# Altium footprint library QFN.PcbLib: 24 footprints (part 1 of 2)
Each footprint in its own frame and in the unit in brackets; x right, y up, seen from the top. Pads: shape width x height; smd on the part's side, far side on the other; paste and mask are expansions set on the pad; w line width, h text height; cw(c..) or ccw(c..) is an arc to the next point about the centre after c.
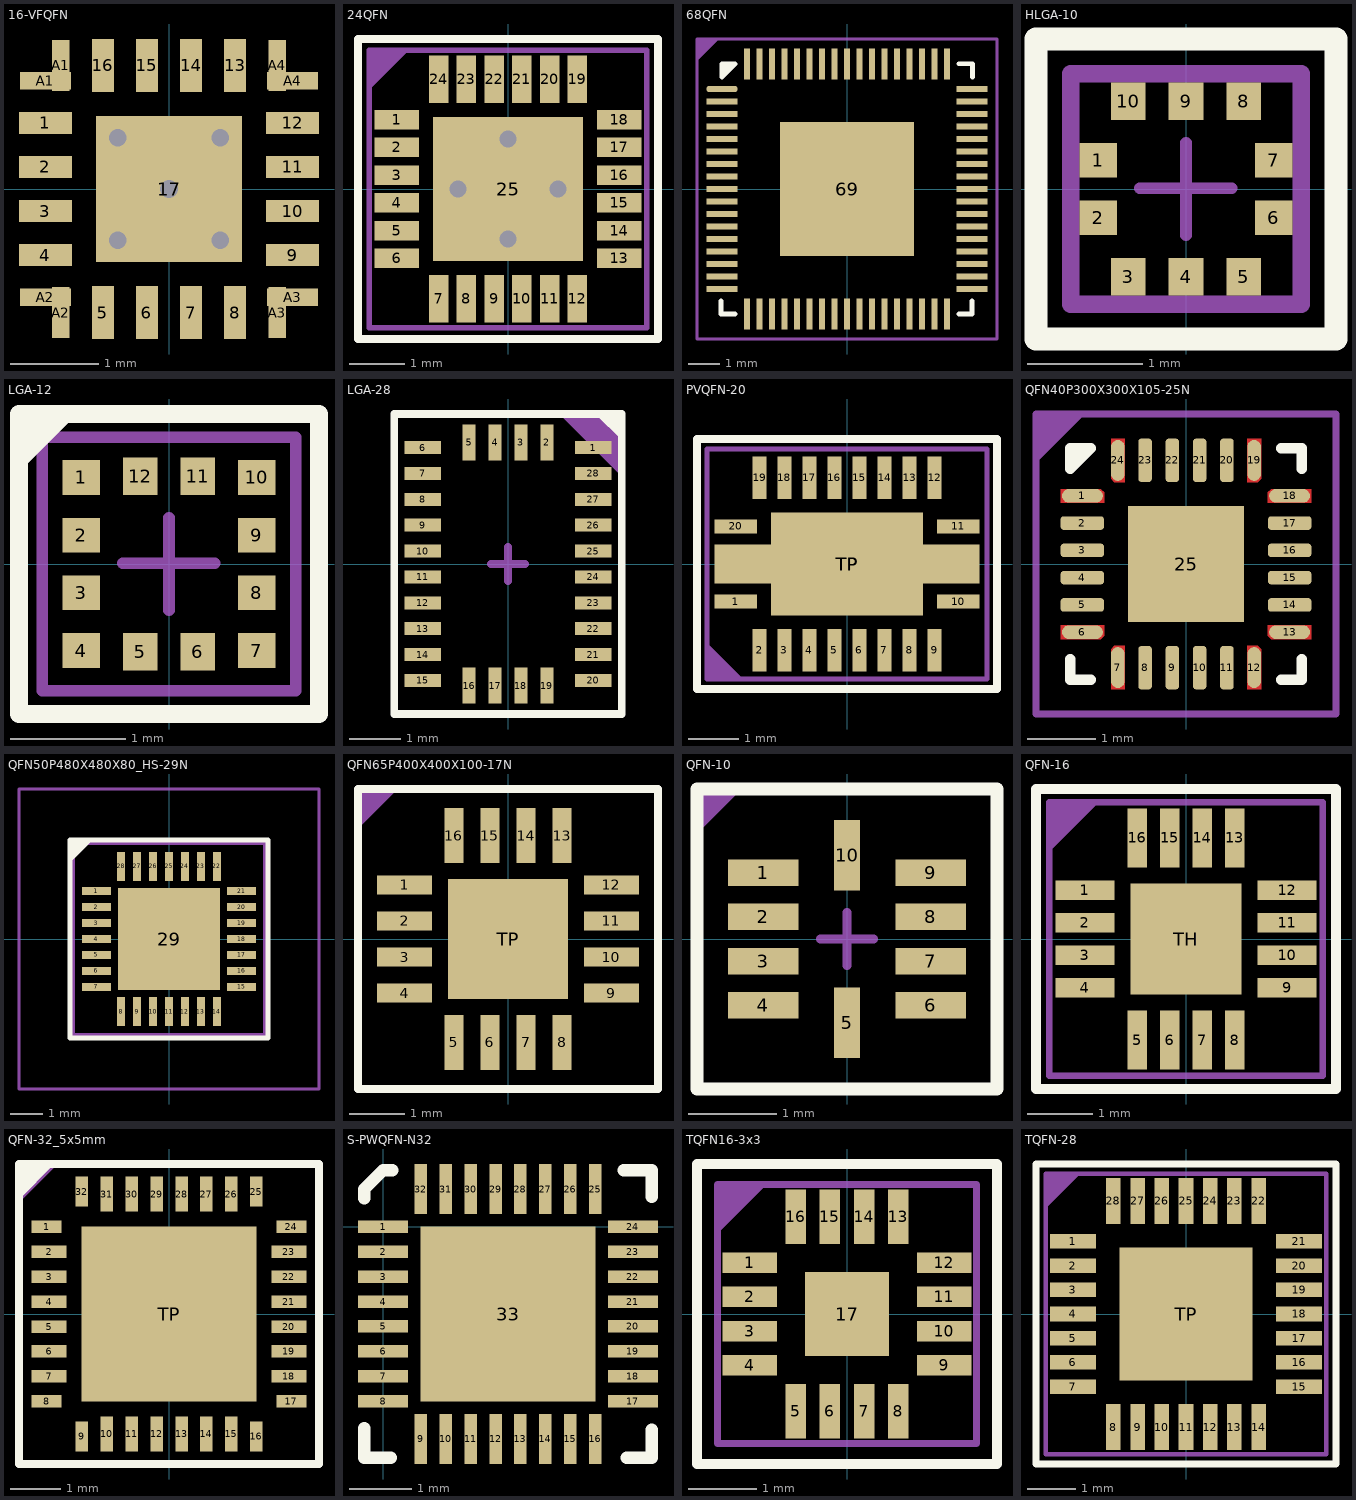
[diagram p0: the footprints below, top view; thin cyan lines are the x and y axes]

## 16-VFQFN [mm]
pads (25):
  rect 0.6x0.25 smd: 1(-1.4,0.75) 2(-1.4,0.25) 3(-1.4,-0.25) 4(-1.4,-0.75) 9(1.4,-0.75) 10(1.4,-0.25) 11(1.4,0.25) 12(1.4,0.75)
  rect 0.25x0.6 smd: 5(-0.75,-1.4) 6(-0.25,-1.4) 7(0.25,-1.4) 8(0.75,-1.4) 13(0.75,1.4) 14(0.25,1.4) 15(-0.25,1.4) 16(-0.75,1.4)
  rect 1.66x1.66 smd: 17(0,0)
  rect 0.575x0.2 smd: A1(-1.4,1.225) A2(-1.4,-1.225) A3(1.4,-1.225) A4(1.4,1.225)
  rect 0.2x0.575 smd: A1(-1.225,1.4) A2(-1.225,-1.4) A3(1.225,-1.4) A4(1.225,1.4)
via 0.58,-0.58 diameter 0.2 hole 0.2
via 0.58,0.58 diameter 0.2 hole 0.2
via -0.58,0.58 diameter 0.2 hole 0.2
via -0.58,-0.58 diameter 0.2 hole 0.2
via 0,0 diameter 0.2 hole 0.2
Top Assembly:
  text "BAD" at -1.022,2.778 h0.8

## 24QFN [mm]
pads (25):
  rect 0.8x0.35 smd: 1(-2,1.25) 2(-2,0.75) 3(-2,0.25) 4(-2,-0.25) 5(-2,-0.75) 6(-2,-1.25) 13(2,-1.25) 14(2,-0.75) 15(2,-0.25) 16(2,0.25) 17(2,0.75) 18(2,1.25)
  rect 0.35x0.85 smd: 7(-1.25,-1.975) 8(-0.75,-1.975) 9(-0.25,-1.975) 10(0.25,-1.975) 11(0.75,-1.975) 12(1.25,-1.975) 19(1.25,1.975) 20(0.75,1.975) 21(0.25,1.975) 22(-0.25,1.975) 23(-0.75,1.975) 24(-1.25,1.975)
  rect 2.7x2.6 smd: 25(0,0)
via 0,0.9 diameter 0.6 hole 0.3
via -0.9,0 diameter 0.6 hole 0.3
via 0.9,0 diameter 0.6 hole 0.3
via 0,-0.9 diameter 0.6 hole 0.3
Top Overlay:
  lines w0.153: -2.7,-2.7 -2.7,2.7 2.7,2.7 2.7,-2.7 -2.7,-2.7
  text "." at -3.446,1.954 h1.52
Top Assembly:
  region: -2.5,2.5 -1.85,2.5 -2.5,1.85
  lines w0.1: -2.5,1.85 -1.85,2.5 ; -2.5,-2.5 -2.5,2.5 2.5,2.5 2.5,-2.5 -2.5,-2.5
  text "'.Designator'" at -2.621,2.837 h1.52
Top Courtyard:
  lines w0.1: -2.5,1.85 -1.85,2.5 ; -0.4,0 0.4,0 ; 0,-0.4 0,0.4 ; -2.5,-2.5 -2.5,2.5 2.5,2.5 2.5,-2.5 -2.5,-2.5
3D body "User Library-mpu-6050_qfn-24-1.STEP": height 0.88, standoff -0.02, extent -2,-2.02 2.04,2.02

## 68QFN [mm]
pads (69):
  oval 1x0.2 smd: 1(-4,3.2)
  rect 1x0.2 smd: 2(-4,2.8) 3(-4,2.4) 4(-4,2) 5(-4,1.6) 6(-4,1.2) 7(-4,0.8) 8(-4,0.4) 9(-4,0) 10(-4,-0.4) 11(-4,-0.8) 12(-4,-1.2) 13(-4,-1.6) 14(-4,-2) 15(-4,-2.4) 16(-4,-2.8) 17(-4,-3.2) 35(4,-3.2) 36(4,-2.8) 37(4,-2.4) 38(4,-2) 39(4,-1.6) 40(4,-1.2) 41(4,-0.8) 42(4,-0.4) 43(4,0) 44(4,0.4) 45(4,0.8) 46(4,1.2) 47(4,1.6) 48(4,2) 49(4,2.4) 50(4,2.8) 51(4,3.2)
  rect 0.2x1 smd: 18(-3.2,-4) 19(-2.8,-4) 20(-2.4,-4) 21(-2,-4) 22(-1.6,-4) 23(-1.2,-4) 24(-0.8,-4) 25(-0.4,-4) 26(0,-4) 27(0.4,-4) 28(0.8,-4) 29(1.2,-4) 30(1.6,-4) 31(2,-4) 32(2.4,-4) 33(2.8,-4) 34(3.2,-4) 52(3.2,4) 53(2.8,4) 54(2.4,4) 55(2,4) 56(1.6,4) 57(1.2,4) 58(0.8,4) 59(0.4,4) 60(0,4) 61(-0.4,4) 62(-0.8,4) 63(-1.2,4) 64(-1.6,4) 65(-2,4) 66(-2.4,4) 67(-2.8,4) 68(-3.2,4)
  rect 4.3x4.3 smd: 69(0,0)
Top Overlay:
  region: -4,3.575 -3.575,4 -4,4
  lines w0.15: -4.03,-3.575 -4.03,-4 -3.575,-4 ; 3.575,-4 4,-4 4,-3.575 ; 3.575,4.009 4.017,4.009 4.017,3.575 ; -4,3.575 -4,4 -3.575,4 -4,3.575
Top Assembly:
  region: -4.8,4.8 -4.15,4.8 -4.8,4.15
  lines w0.1: -4.8,4.15 -4.15,4.8 ; -4.8,-4.8 4.8,-4.8 4.8,4.8 -4.8,4.8 -4.8,-4.8
  text "'.Designator'" at -8.633,-0.635 h1.52
Top Courtyard:
  lines w0.1: -4.8,4.15 -4.15,4.8 ; -0.4,0 0.4,0 ; 0,-0.4 0,0.4 ; -4.8,-4.8 -4.8,4.8 4.8,4.8 4.8,-4.8 -4.8,-4.8
3D body "QFN68(8x8mm).step": height 0.84, standoff -0.01, extent -4.02,-4.02 4.02,4.02

## HLGA-10 [mm]
pads (10):
  rect 0.325x0.3 smd paste+0 mask+0: 1(-0.763,0.25) 2(-0.763,-0.25) 6(0.763,-0.25) 7(0.763,0.25)
  rect 0.3x0.325 smd paste+0 mask+0: 3(-0.5,-0.763) 4(0,-0.763) 5(0.5,-0.763) 8(0.5,0.763) 9(0,0.763) 10(-0.5,0.763)
Top Overlay:
  lines w0.2: -1.3,-1.3 -1.3,1.3 1.3,1.3 1.3,-1.3 -1.3,-1.3
  text "." at -1.767,0.183 h0.8
Top Assembly:
  lines w0.15: -1,-1 1,-1 1,1 -1,1 -1,-1
  text ".Designator" at 0,0.188 h1
Top Courtyard:
  lines w0.1: -0.402,0.005 0.398,0.005 ; 0,-0.4 0,0.4 ; -1.3,-1.3 -1.3,1.3 1.3,1.3 1.3,-1.3 -1.3,-1.3
3D body "IC_STMicroelectronics_LPS22HBTR_eec.STEP": height 0.8, standoff 0, extent -1,-1 1,1

## LGA-12 [mm]
pads (12):
  rect 0.325x0.3 smd paste-1000 mask+0: 1(-0.763,0.75) 2(-0.763,0.25) 3(-0.763,-0.25) 4(-0.763,-0.75) 7(0.763,-0.75) 8(0.763,-0.25) 9(0.763,0.25) 10(0.763,0.75)
  rect 0.3x0.325 smd paste-1000 mask+0: 5(-0.25,-0.763) 6(0.25,-0.763) 11(0.25,0.763) 12(-0.25,0.763)
Top Overlay:
  region: -1.3,1.3 -0.8,1.3 -1.3,0.8
  lines w0.153: -1.3,-1.3 -1.3,1.3 1.3,1.3 1.3,-1.3 -1.3,-1.3
Top Paste:
  rectangle: 0.093,0.595 0.406,0.93
  rectangle: -0.406,0.595 -0.093,0.93
  rectangle: 0.093,-0.93 0.406,-0.595
  rectangle: -0.406,-0.93 -0.093,-0.595
  rectangle: 0.595,-0.907 0.93,-0.593
  rectangle: 0.595,-0.406 0.93,-0.093
  rectangle: 0.595,0.093 0.93,0.406
  rectangle: 0.595,0.593 0.93,0.907
  rectangle: -0.93,-0.907 -0.595,-0.593
  rectangle: -0.93,-0.406 -0.595,-0.093
  rectangle: -0.93,0.093 -0.595,0.406
  rectangle: -0.93,0.593 -0.595,0.907
Top Assembly:
  lines w0.1: -1.1,-1.1 -1.1,1.1 1.1,1.1 1.1,-1.1 -1.1,-1.1
  text ".Designator" at 0,0.188 h1
Top Courtyard:
  lines w0.1: -0.402,0.005 0.398,0.005 ; 0,-0.4 0,0.4 ; -1.3,-1.3 -1.3,1.3 1.3,1.3 1.3,-1.3 -1.3,-1.3
3D body "IC_STMicroelectronics_LIS2DH12TR_eec.STEP": height 1, standoff 0, extent -1,-1 1,1

## LGA-28 [mm]
pads (28):
  rect 0.7x0.25 smd mask+0.05: 1(1.65,2.25) 6(-1.65,2.25) 7(-1.65,1.75) 8(-1.65,1.25) 9(-1.65,0.75) 10(-1.65,0.25) 11(-1.65,-0.25) 12(-1.65,-0.75) 13(-1.65,-1.25) 14(-1.65,-1.75) 15(-1.65,-2.25) 20(1.65,-2.25) 21(1.65,-1.75) 22(1.65,-1.25) 23(1.65,-0.75) 24(1.65,-0.25) 25(1.65,0.25) 26(1.65,0.75) 27(1.65,1.25) 28(1.65,1.75)
  rect 0.25x0.7 smd mask+0.05: 2(0.75,2.35) 3(0.25,2.35) 4(-0.25,2.35) 5(-0.75,2.35) 16(-0.75,-2.35) 17(-0.25,-2.35) 18(0.25,-2.35) 19(0.75,-2.35)
Top Overlay:
  region: 2.2,2.9 2.2,2.4 1.7,2.9
  lines w0.153: -2.2,-2.9 2.2,-2.9 2.2,2.9 -2.2,2.9 -2.2,-2.9
Top Assembly:
  region: 2.2,2.9 2.2,1.7 1,2.9
  lines w0.1: -2.2,-2.9 2.2,-2.9 2.2,2.9 -2.2,2.9 -2.2,-2.9
  text "'.Designator'" at -4.532,-0.333 h0.8
Top Courtyard:
  lines w0.1: -2.2,-2.9 2.2,-2.9 2.2,2.9 -2.2,2.9 -2.2,-2.9
  lines w0.153: -0.325,0 0.325,0 ; 0,-0.325 0,0.325
3D body "User Library-BNO080 v2.STEP": height 1.13, standoff 0, extent -1.9,-2.6 1.9,2.6

## PVQFN-20 [mm]
pads (22):
  rect 0.85x0.28 smd: 1(-2.225,-0.75) 10(2.225,-0.75) 11(2.225,0.75) 20(-2.225,0.75)
  rect 0.28x0.85 smd: 2(-1.75,-1.725) 3(-1.25,-1.725) 4(-0.75,-1.725) 5(-0.25,-1.725) 6(0.25,-1.725) 7(0.75,-1.725) 8(1.25,-1.725) 9(1.75,-1.725) 12(1.75,1.725) 13(1.25,1.725) 14(0.75,1.725) 15(0.25,1.725) 16(-0.25,1.725) 17(-0.75,1.725) 18(-1.25,1.725) 19(-1.75,1.725)
  rect 3.05x2.05 smd: TP(0,0)
  rect 5.3x0.78 smd: TP(0,0)
Top Overlay:
  lines w0.153: -3,-2.5 -3,2.5 3,2.5 3,-2.5 -3,-2.5
  text "." at -3.554,-0.946 h1.52
Top Assembly:
  region: -2.8,-2.3 -2.8,-1.65 -2.15,-2.3
  lines w0.1: -2.8,-1.65 -2.15,-2.3 ; -2.8,-2.3 2.8,-2.3 2.8,2.3 -2.8,2.3 -2.8,-2.3
  text "'.Designator'" at -4.532,-0.333 h0.8
Top Courtyard:
  lines w0.1: -2.8,-1.65 -2.15,-2.3 ; -2.8,-2.3 -2.8,2.3 2.8,2.3 2.8,-2.3 -2.8,-2.3
  lines w0.153: -0.4,0 0.4,0 ; 0,-0.4 0,0.4
3D body "PVQFN20.STEP": height 1.06, standoff 0.01, extent -2.331,-1.83 2.329,1.83

## QFN40P300X300X105-25N [mm]
height 1.05
pads (25):
  oval 0.6x0.2 smd mask+0.102: 1(-1.52,1) 6(-1.52,-1) 13(1.52,-1) 18(1.52,1)
  rrect50% 0.64x0.2 smd: 2(-1.52,0.6) 3(-1.52,0.2) 4(-1.52,-0.2) 5(-1.52,-0.6) 14(1.52,-0.6) 15(1.52,-0.2) 16(1.52,0.2) 17(1.52,0.6)
  oval 0.2x0.6 smd mask+0.102: 7(-1,-1.52) 12(1,-1.52) 19(1,1.52) 24(-1,1.52)
  rrect50% 0.2x0.64 smd: 8(-0.6,-1.52) 9(-0.2,-1.52) 10(0.2,-1.52) 11(0.6,-1.52) 20(0.6,1.52) 21(0.2,1.52) 22(-0.2,1.52) 23(-0.6,1.52)
  rect 1.7x1.7 smd paste-2: 25(0,0)
Top Layer:
  region: -1.84,1.1 -1.84,0.9 -1.2,0.9 -1.2,1.05 -1.25,1.1
  region: -1.1,1.84 -0.9,1.84 -0.9,1.2 -1.05,1.2 -1.1,1.25
  region: 1.1,1.84 0.9,1.84 0.9,1.2 1.05,1.2 1.1,1.25
  region: 1.84,1.1 1.84,0.9 1.2,0.9 1.2,1.05 1.25,1.1
  region: 1.84,-1.1 1.84,-0.9 1.2,-0.9 1.2,-1.05 1.25,-1.1
  region: 1.1,-1.84 0.9,-1.84 0.9,-1.2 1.05,-1.2 1.1,-1.25
  region: -1.1,-1.84 -0.9,-1.84 -0.9,-1.2 -1.05,-1.2 -1.1,-1.25
  region: -1.84,-1.1 -1.84,-0.9 -1.2,-0.9 -1.2,-1.05 -1.25,-1.1
Top Overlay:
  region: -1.7,1.7 -1.7,1.4 -1.4,1.7
  lines w0.153: -1.7,-1.4 -1.7,-1.7 -1.4,-1.7 ; 1.4,-1.7 1.7,-1.7 1.7,-1.4 ; 1.4,1.7 1.7,1.7 1.7,1.4 ; -1.7,1.4 -1.4,1.7 -1.7,1.7 -1.7,1.4
Top Paste:
  region: 0.538,-0.487 -0.538,-0.487 -0.538,0.487 0.538,0.487
Top Assembly:
  region: -2.2,2.2 -1.55,2.2 -2.2,1.55
  lines w0.1: -2.2,1.55 -1.55,2.2 ; -2.2,-2.2 -2.2,2.2 2.2,2.2 2.2,-2.2 -2.2,-2.2
  text "'.Designator'" at -4.532,-0.333 h0.8
Top Courtyard:
  lines w0.1: -0.3,0 0.3,0 ; 0,-0.3 0,0.3 ; -2.2,-2.2 2.2,-2.2 2.2,2.2 -2.2,2.2 -2.2,-2.2
3D body "step_temp.STEP": height 1.05, standoff 0, extent -1.5,-1.5 1.5,1.5

## QFN50P480X480X80_HS-29N [mm] "QFN, 28-Leads, Body 4,80x4,80mm, Pitch 0,50mm, Thermal Pad 3,25x3,25mm, IPC Medium Density"
height 0.8
pads (29):
  rect 0.9x0.25 smd mask+0.06: 1(-2.275,1.5) 2(-2.275,1) 3(-2.275,0.5) 4(-2.275,0) 5(-2.275,-0.5) 6(-2.275,-1) 7(-2.275,-1.5) 15(2.275,-1.5) 16(2.275,-1) 17(2.275,-0.5) 18(2.275,0) 19(2.275,0.5) 20(2.275,1) 21(2.275,1.5)
  rect 0.25x0.9 smd mask+0.06: 8(-1.5,-2.275) 9(-1,-2.275) 10(-0.5,-2.275) 11(0,-2.275) 12(0.5,-2.275) 13(1,-2.275) 14(1.5,-2.275) 22(1.5,2.275) 23(1,2.275) 24(0.5,2.275) 25(0,2.275) 26(-0.5,2.275) 27(-1,2.275) 28(-1.5,2.275)
  rect 3.2x3.2 smd mask+0.06: 29(0,0)
Top Overlay:
  region: -3.1,3.1 -2.4,3.1 -3.1,2.4
  lines w0.153: -3.1,-3.1 3.1,-3.1 3.1,3.1 -3.1,3.1 -3.1,-3.1
Top Assembly:
  region: -3,3 -2.5,3 -3,2.5
  lines w0.1: -3,-3 3,-3 3,3 -3,3 -3,-3
  text "'.Designator'" at -4.532,-0.333 h0.8
Top Courtyard:
  lines w0.1: -0.5,0 0.5,0 ; 0,-0.5 0,0.5 ; -4.7,-4.7 4.7,-4.7 4.7,4.7 -4.7,4.7 -4.7,-4.7
3D body "QFN50P480X480X80_HS-29N.step": height 0.8, standoff 0, extent -2.41,-2.41 2.41,2.41

## QFN65P400X400X100-17N [mm]
pads (17):
  rect 0.99x0.34 smd: 1(-1.86,0.975) 2(-1.86,0.325) 3(-1.86,-0.325) 4(-1.86,-0.975) 9(1.86,-0.975) 10(1.86,-0.325) 11(1.86,0.325) 12(1.86,0.975)
  rect 0.34x0.99 smd: 5(-0.975,-1.86) 6(-0.325,-1.86) 7(0.325,-1.86) 8(0.975,-1.86) 13(0.975,1.86) 14(0.325,1.86) 15(-0.325,1.86) 16(-0.975,1.86)
  rect 2.16x2.16 smd paste-2: TP(0,0)
Top Overlay:
  lines w0.153: -2.7,-2.7 -2.7,2.7 2.7,2.7 2.7,-2.7 -2.7,-2.7
  text "." at -3.746,1.629 h1.52
Top Paste:
  region: 0.68,-0.68 -0.68,-0.68 -0.68,0.68 0.68,0.68
Top Assembly:
  region: -2.7,2.7 -2.05,2.7 -2.7,2.05
  lines w0.1: -2.7,2.05 -2.05,2.7 ; -2.7,-2.7 -2.7,2.7 2.7,2.7 2.7,-2.7 -2.7,-2.7
  text "'.Designator'" at -4.532,-0.333 h0.8
Top Courtyard:
  lines w0.1: -2.7,-2.7 2.7,-2.7 2.7,2.7 -2.7,2.7 -2.7,-2.7
  lines w0.153: -0.325,0 0.325,0 ; 0,-0.325 0,0.325

## QFN-10 [mm]
pads (10):
  rect 0.8x0.3 smd mask+0.06: 1(-0.95,0.75) 2(-0.95,0.25) 3(-0.95,-0.25) 4(-0.95,-0.75) 6(0.95,-0.75) 7(0.95,-0.25) 8(0.95,0.25) 9(0.95,0.75)
  rect 0.3x0.8 smd mask+0.06: 5(0,-0.95) 10(0,0.95)
Top Overlay:
  lines w0.153: -1.7,-1.7 -1.7,1.7 1.7,1.7 1.7,-1.7 -1.7,-1.7
  text "." at -2.067,0.733 h0.8
Top Assembly:
  region: -1.7,1.7 -1.2,1.7 -1.7,1.2
  lines w0.1: -1.7,-1.7 1.7,-1.7 1.7,1.7 -1.7,1.7 -1.7,-1.7
  text "'.Designator'" at 0.333,-4.532 h0.8
Top Courtyard:
  lines w0.1: -0.3,0 0.3,0 ; 0,-0.3 0,0.3 ; -1.7,-1.7 1.7,-1.7 1.7,1.7 -1.7,1.7 -1.7,-1.7
3D body "Si1143-A11-GMR.stp": height 0.75, standoff 0, extent -1.05,-1.05 1.05,1.05

## QFN-16 [mm]
pads (17):
  rect 0.9x0.3 smd: 1(-1.55,0.75) 2(-1.55,0.25) 3(-1.55,-0.25) 4(-1.55,-0.75) 9(1.55,-0.75) 10(1.55,-0.25) 11(1.55,0.25) 12(1.55,0.75)
  rect 0.3x0.9 smd: 5(-0.75,-1.55) 6(-0.25,-1.55) 7(0.25,-1.55) 8(0.75,-1.55) 13(0.75,1.55) 14(0.25,1.55) 15(-0.25,1.55) 16(-0.75,1.55)
  rect 1.7x1.7 smd: TH(0,0)
Top Overlay:
  lines w0.153: -2.3,-2.3 2.3,-2.3 2.3,2.3 -2.3,2.3 -2.3,-2.3
  text "." at -3.046,2.229 h1.52
Top Assembly:
  region: -2.075,2.075 -1.425,2.075 -2.075,1.425
  lines w0.1: -2.1,1.4 -1.4,2.1 ; -2.1,-2.1 -2.1,2.1 2.1,2.1 2.1,-2.1 -2.1,-2.1
  text "'.Designator'" at -4.532,-0.333 h0.8
Top Courtyard:
  lines w0.1: -2.1,1.4 -1.4,2.1 ; -2.1,-2.1 2.1,-2.1 2.1,2.1 -2.1,2.1 -2.1,-2.1
  lines w0.153: -0.325,0 0.325,0 ; 0,-0.325 0,0.325
3D body "VQFN16.step": height 0.9, standoff 0, extent -1.75,-1.75 1.75,1.75

## QFN-32_5x5mm [mm]
pads (33):
  rect 0.6x0.25 smd mask+0.07: 1(-2.45,1.75) 8(-2.45,-1.75) 17(2.45,-1.75) 24(2.45,1.75)
  rect 0.7x0.25 smd mask+0.07: 2(-2.4,1.25) 3(-2.4,0.75) 4(-2.4,0.25) 5(-2.4,-0.25) 6(-2.4,-0.75) 7(-2.4,-1.25) 18(2.4,-1.25) 19(2.4,-0.75) 20(2.4,-0.25) 21(2.4,0.25) 22(2.4,0.75) 23(2.4,1.25)
  rect 0.25x0.6 smd mask+0.07: 9(-1.75,-2.45) 16(1.75,-2.45) 25(1.75,2.45) 32(-1.75,2.45)
  rect 0.25x0.7 smd mask+0.07: 10(-1.25,-2.4) 11(-0.75,-2.4) 12(-0.25,-2.4) 13(0.25,-2.4) 14(0.75,-2.4) 15(1.25,-2.4) 26(1.25,2.4) 27(0.75,2.4) 28(0.25,2.4) 29(-0.25,2.4) 30(-0.75,2.4) 31(-1.25,2.4)
  rect 3.5x3.5 smd mask+0.07: TP(0,0)
Top Overlay:
  region: -3,3 -2.3,3 -3,2.3
  lines w0.153: -3,-3 -3,3 3,3 3,-3 -3,-3
Top Assembly:
  region: -3,3 -2.3,3 -3,2.3
  lines w0.1: -3,-3 3,-3 3,3 -3,3 -3,-3
  text "'.Designator'" at -4.532,-0.333 h0.8
Top Courtyard:
  lines w0.1: -3,2.3 -2.3,3 ; -3,-3 3,-3 3,3 -3,3 -3,-3
  lines w0.153: -0.325,0 0.325,0 ; 0,-0.325 0,0.325
3D body "User Library-QFN32-1.step": height 0.9, standoff -0.03, extent -2.5,-2.5 2.5,2.5

## S-PWQFN-N32 [mm]
pads (33):
  rect 0.8x0.2 smd: 1(0,0) 2(0,-0.4) 3(0,-0.8) 4(0,-1.2) 5(0,-1.6) 6(0,-2) 7(0,-2.4) 8(0,-2.8) 17(4,-2.8) 18(4,-2.4) 19(4,-2) 20(4,-1.6) 21(4,-1.2) 22(4,-0.8) 23(4,-0.4) 24(4,0)
  rect 0.2x0.8 smd: 9(0.6,-3.4) 10(1,-3.4) 11(1.4,-3.4) 12(1.8,-3.4) 13(2.2,-3.4) 14(2.6,-3.4) 15(3,-3.4) 16(3.4,-3.4) 25(3.4,0.6) 26(3,0.6) 27(2.6,0.6) 28(2.2,0.6) 29(1.8,0.6) 30(1.4,0.6) 31(1,0.6) 32(0.6,0.6)
  rect 2.8x2.8 smd: 33(2,-1.4)
Top Overlay:
  lines w0.2: -0.3,-3.225 -0.3,-3.7 0.125,-3.7 ; -0.3,0.45 -0.3,0.6 0,0.9 0.15,0.9 ; 3.85,0.9 4.3,0.9 4.3,0.475 ; 3.9,-3.7 4.3,-3.7 4.3,-3.25
Top Assembly:
  text "BAD" at 1.228,1.978 h0.8

## TQFN16-3x3 [mm]
pads (17):
  rect 0.8x0.3 smd: 1(-1.425,0.75) 2(-1.425,0.25) 3(-1.425,-0.25) 4(-1.425,-0.75) 9(1.425,-0.75) 10(1.425,-0.25) 11(1.425,0.25) 12(1.425,0.75)
  rect 0.3x0.8 smd: 5(-0.75,-1.425) 6(-0.25,-1.425) 7(0.25,-1.425) 8(0.75,-1.425) 13(0.75,1.425) 14(0.25,1.425) 15(-0.25,1.425) 16(-0.75,1.425)
  rect 1.23x1.23 smd: 17(0,0)
Top Overlay:
  lines w0.153: -2.2,-2.2 2.2,-2.2 2.2,2.2 -2.2,2.2 -2.2,-2.2
  text "." at -3.046,1.854 h1.52
Top Assembly:
  region: -1.9,1.9 -1.25,1.9 -1.9,1.25
  lines w0.1: -1.9,1.25 -1.25,1.9 ; -1.9,-1.9 -1.9,1.9 1.9,1.9 1.9,-1.9 -1.9,-1.9
  text "'.Designator'" at -1.646,2.662 h1.52
Top Courtyard:
  lines w0.1: -1.9,1.25 -1.25,1.9 ; -0.3,0 0.3,0 ; 0,-0.3 0,0.3 ; -1.9,-1.9 -1.9,1.9 1.9,1.9 1.9,-1.9 -1.9,-1.9
3D body "TQFN16-3x3.step": height 0.81, standoff 0, extent -1.549,-1.549 1.549,1.549

## TQFN-28 [mm]
pads (29):
  rect 0.95x0.3 smd: 1(-2.34,1.5) 2(-2.34,1) 3(-2.34,0.5) 4(-2.34,0) 5(-2.34,-0.5) 6(-2.34,-1) 7(-2.34,-1.5) 15(2.34,-1.5) 16(2.34,-1) 17(2.34,-0.5) 18(2.34,0) 19(2.34,0.5) 20(2.34,1) 21(2.34,1.5)
  rect 0.3x0.95 smd: 8(-1.5,-2.34) 9(-1,-2.34) 10(-0.5,-2.34) 11(0,-2.34) 12(0.5,-2.34) 13(1,-2.34) 14(1.5,-2.34) 22(1.5,2.34) 23(1,2.34) 24(0.5,2.34) 25(0,2.34) 26(-0.5,2.34) 27(-1,2.34) 28(-1.5,2.34)
  rect 2.75x2.75 smd: TP(0,0)
Top Overlay:
  lines w0.153: -3.1,-3.1 -3.1,3.1 3.1,3.1 3.1,-3.1 -3.1,-3.1
  text "." at -3.821,2.279 h1.52
Top Assembly:
  region: -2.9,2.9 -2.25,2.9 -2.9,2.25
  lines w0.1: -2.9,2.25 -2.25,2.9 ; -2.9,-2.9 2.9,-2.9 2.9,2.9 -2.9,2.9 -2.9,-2.9
  text "'.Designator'" at -4.532,-0.333 h0.8
Top Courtyard:
  lines w0.1: -2.9,2.25 -2.25,2.9 ; -2.9,-2.9 -2.9,2.9 2.9,2.9 2.9,-2.9 -2.9,-2.9
  lines w0.153: -0.4,0 0.4,0 ; 0,-0.4 0,0.4
3D body "QFN28_5x5.step": height 0.95, standoff 0, extent -2.6,-2.6 2.6,2.6